# EAGLE library part PLAYSTATION_MEMORY_CARD (library PlayStation Memory Card)
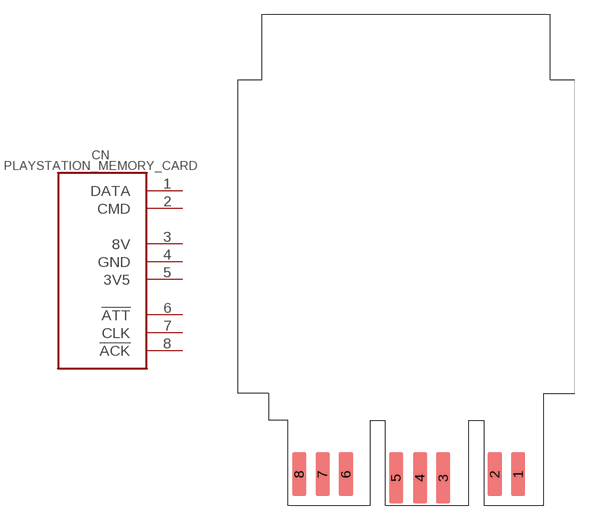
[diagram p0: symbol with the pads of PS2_MEMORY_CARD; footprint PS2_MEMORY_CARD]

Designator prefix CN

## PLAYSTATION_MEMORY_CARD  [PS2_MEMORY_CARD]
1  DATA
2  CMD
3  8V
4  GND
5  3V5
6  !ATT
7  CLK
8  !ACK

## Footprint PS2_MEMORY_CARD (pad centres in mm)
smd 1.5 x 4.7: 1 24.6,3.35; 2 22.1,3.35; 6 6.2,3.35; 7 3.7,3.35; 8 1.2,3.35
smd 1.5 x 5.5: 3 16.6,2.95; 4 14.1,2.95; 5 11.55,2.95